# EAGLE library part AD633 (library wheat)
Analog Multiplier
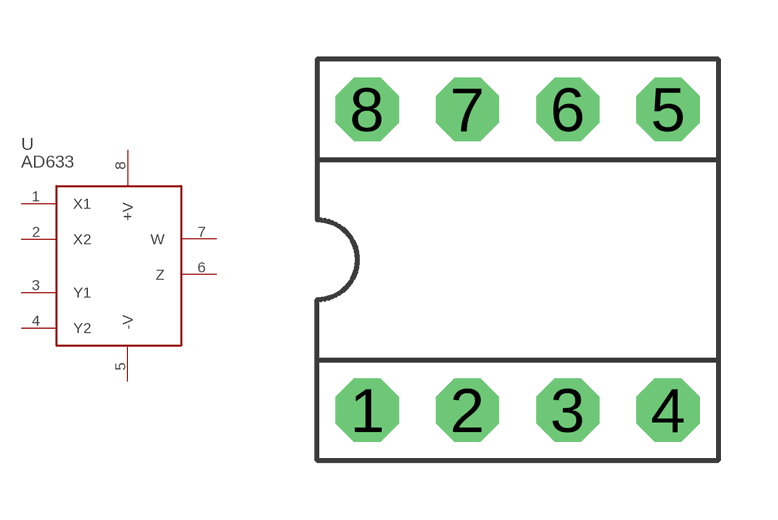
[diagram p252: symbol with the pads of DIP-08; footprint DIP-08]

Designator prefix U

## AD633  [DIP-08]
1  X1
2  X2
3  Y1
4  Y2
5  -V
6  Z
7  W
8  +V

## Footprint DIP-08 (pad centres in mm)
drill 0.813 pad 1.6 octagon: 1 -3.81,-3.81; 2 -1.27,-3.81; 3 1.27,-3.81; 4 3.81,-3.81; 5 3.81,3.81; 6 1.27,3.81; 7 -1.27,3.81; 8 -3.81,3.81